# Altium schematic symbol library ES8388.Schlib: 1 symbol
Pins are listed as number, name and electrical type; pins without a type are passive.

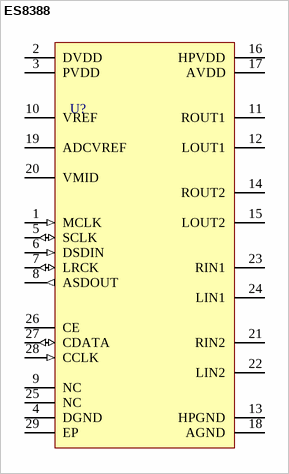
[diagram p0: symbol ES8388]

## ES8388
designator U?
Low Power Stereo Audio CODEC With Headphone Amplifier
pins: 1 MCLK (in), 2 DVDD (power), 3 PVDD (power), 4 DGND (power), 5 SCLK (io), 6 DSDIN (in), 7 LRCK (io), 8 ASDOUT (out), 9 NC, 10 VREF, 11 ROUT1, 12 LOUT1, 13 HPGND (power), 14 ROUT2, 15 LOUT2, 16 HPVDD (power), 17 AVDD (power), 18 AGND (power), 19 ADCVREF, 20 VMID, 21 RIN2, 22 LIN2, 23 RIN1, 24 LIN1, 25 NC, 26 CE, 27 CDATA (io), 28 CCLK (in), 29 EP (power)